# EAGLE library part XCS05LCC84 (library XILINX)
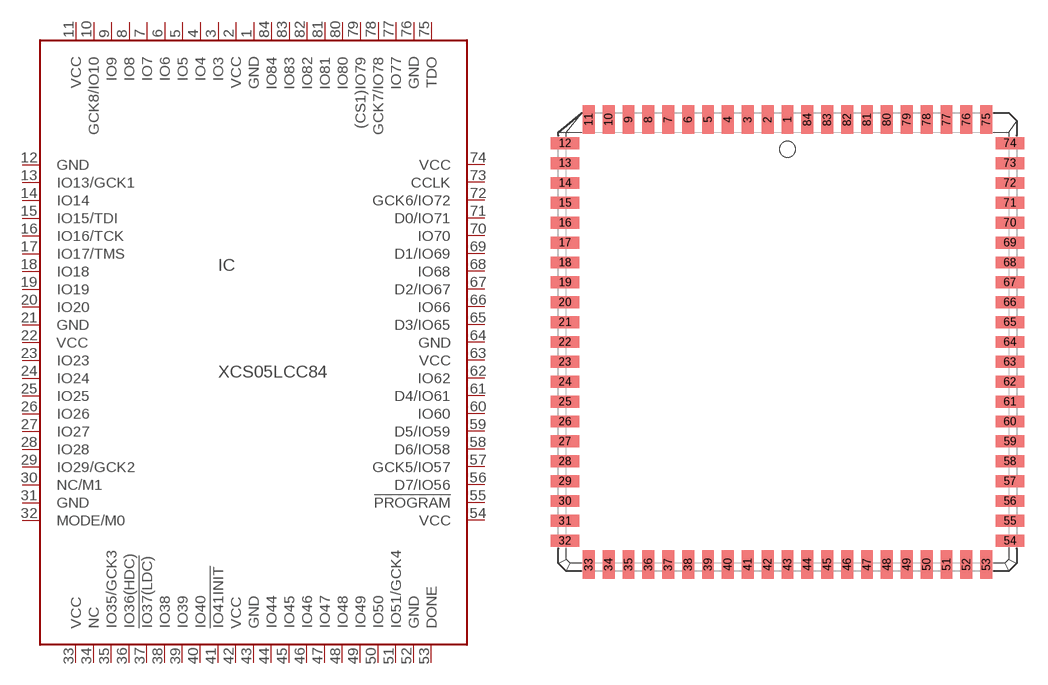
[diagram p6: symbol with the pads of PC84; footprint PC84]

Designator prefix IC

## XCS05LCC84  [PC84]
1  GND  pwr
2  VCC  pwr
3  IO3
4  IO4
5  IO5
6  IO6
7  IO7
8  IO8
9  IO9
10  GCK8/IO10
11  VCC  pwr
12  GND  pwr
13  IO13/GCK1
14  IO14
15  IO15/TDI
16  IO16/TCK
17  IO17/TMS
18  IO18
19  IO19
20  IO20
21  GND  pwr
22  VCC  pwr
23  IO23
24  IO24
25  IO25
26  IO26
27  IO27
28  IO28
29  IO29/GCK2
30  NC/M1  nc
31  GND  pwr
32  MODE/M0  in
33  VCC  pwr
34  NC  nc
35  IO35/GCK3
36  IO36(HDC)
37  !IO37(LDC)
38  IO38
39  IO39
40  IO40
41  !IO41INIT
42  VCC  pwr
43  GND  pwr
44  IO44
45  IO45
46  IO46
47  IO47
48  IO48
49  IO49
50  IO50
51  IO51/GCK4
52  GND  pwr
53  DONE  out
54  VCC  pwr
55  !PROGRAM  in
56  D7/IO56
57  GCK5/IO57
58  D6/IO58
59  D5/IO59
60  IO60
61  D4/IO61
62  IO62
63  VCC  pwr
64  GND  pwr
65  D3/IO65
66  IO66
67  D2/IO67
68  IO68
69  D1/IO69
70  IO70
71  D0/IO71
72  GCK6/IO72
73  CCLK  in
74  VCC  pwr
75  TDO  out
76  GND  pwr
77  IO77
78  GCK7/IO78
79  (CS1)IO79
80  IO80
81  IO81
82  IO82
83  IO83
84  IO84

## Footprint PC84 (pad centres in mm)
smd 0.76 x 1.8: 1 0,12.94; 2 -1.27,12.94; 3 -2.54,12.94; 4 -3.81,12.94; 5 -5.08,12.94; 6 -6.35,12.94; 7 -7.62,12.94; 8 -8.89,12.94; 9 -10.16,12.94; 10 -11.43,12.94; 11 -12.7,12.94; 33 -12.7,-15.48; 34 -11.43,-15.48; 35 -10.16,-15.48; 36 -8.89,-15.48; 37 -7.62,-15.48; 38 -6.35,-15.48; 39 -5.08,-15.48; 40 -3.81,-15.48; 41 -2.54,-15.48; 42 -1.27,-15.48; 43 0,-15.48; 44 1.27,-15.48; 45 2.54,-15.48; 46 3.81,-15.48; 47 5.08,-15.48; 48 6.35,-15.48; 49 7.62,-15.48; 50 8.89,-15.48; 51 10.16,-15.48; 52 11.43,-15.48; 53 12.7,-15.48; 75 12.7,12.94; 76 11.43,12.94; 77 10.16,12.94; 78 8.89,12.94; 79 7.62,12.94; 80 6.35,12.94; 81 5.08,12.94; 82 3.81,12.94; 83 2.54,12.94; 84 1.27,12.94
smd 1.8 x 0.76: 12 -14.21,11.43; 13 -14.21,10.16; 14 -14.21,8.89; 15 -14.21,7.62; 16 -14.21,6.35; 17 -14.21,5.08; 18 -14.21,3.81; 19 -14.21,2.54; 20 -14.21,1.27; 21 -14.21,0; 22 -14.21,-1.27; 23 -14.21,-2.54; 24 -14.21,-3.81; 25 -14.21,-5.08; 26 -14.21,-6.35; 27 -14.21,-7.62; 28 -14.21,-8.89; 29 -14.21,-10.16; 30 -14.21,-11.43; 31 -14.21,-12.7; 32 -14.21,-13.97; 54 14.21,-13.97; 55 14.21,-12.7; 56 14.21,-11.43; 57 14.21,-10.16; 58 14.21,-8.89; 59 14.21,-7.62; 60 14.21,-6.35; 61 14.21,-5.08; 62 14.21,-3.81; 63 14.21,-2.54; 64 14.21,-1.27; 65 14.21,0; 66 14.21,1.27; 67 14.21,2.54; 68 14.21,3.81; 69 14.21,5.08; 70 14.21,6.35; 71 14.21,7.62; 72 14.21,8.89; 73 14.21,10.16; 74 14.21,11.43